# Altium footprint library HEADER RES 3.PcbLib: 1 footprints
Each footprint in its own frame and in the unit in brackets; x right, y up, seen from the top. Pads: shape width x height; smd on the part's side, far side on the other; paste and mask are expansions set on the pad; w line width, h text height; cw(c..) or ccw(c..) is an arc to the next point about the centre after c.
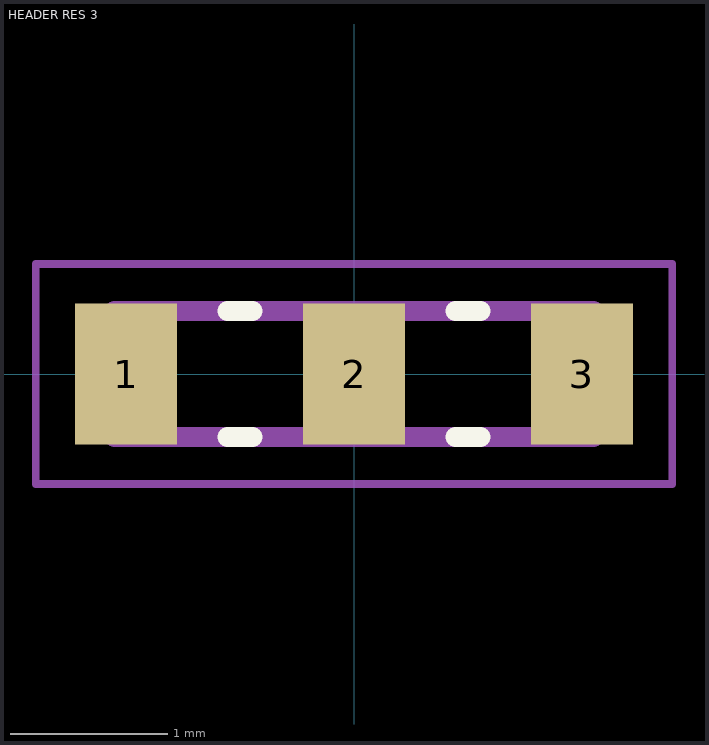
[diagram p0: the footprint, top view; thin cyan lines are the x and y axes]

## HEADER RES 3 [mm]
pads (3):
  rect 0.65x0.9 smd: 1(-1.45,0) 2(0,0) 3(1.45,0)
Top Overlay:
  lines w0.127: -0.805,-0.4 -0.645,-0.4 ; -0.805,0.4 -0.645,0.4 ; 0.645,-0.4 0.805,-0.4 ; 0.645,0.4 0.805,0.4
Mechanical 13:
  lines w0.127: -0.075,-0.4 1.525,-0.4 1.525,0.4 -0.075,0.4 ; 0.075,-0.4 -1.525,-0.4 -1.525,0.4 0.075,0.4
Mechanical 15:
  lines w0.05: -2.025,-0.7 2.025,-0.7 2.025,0.7 -2.025,0.7 -2.025,-0.7